# Altium schematic symbol library 2478.SchLib: 1 symbol
Pins are listed as number, name and electrical type; pins without a type are passive.

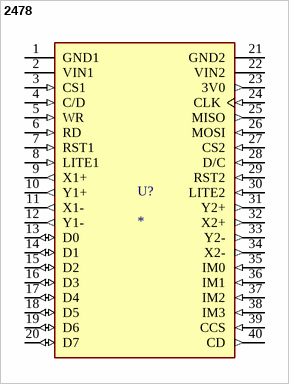
[diagram p0: symbol 2478]

## 2478
designator U?
Resistive Graphic LCD Display Module Red, Green, Blue (RGB) TFT - Color Parallel, 8-Bit, SPI 2.4 (60.96mm) 240 x 320; MF: Adafruit Industries; MP: 2478; Package: NON STANDARD Adafruit; Price: None; Value: *; SnapEDA_Link: https://www.snapeda.com/parts/2478/Adafruit+Industries+LLC/view-part/?ref=snap; Availability: In Stock; Check_prices: https://www.snapeda.com/parts/2478/Adafruit+Industries+LLC/view-part/?ref=eda
footprint ADAFRUIT_2478
pins: 1 GND1 (power), 2 VIN1 (power), 3 CS1 (in), 4 C/D (in), 5 WR (in), 6 RD (in), 7 RST1 (in), 8 LITE1 (in), 9 X1+ (out), 10 Y1+ (out), 11 X1- (out), 12 Y1- (out), 13 D0 (io), 14 D1 (io), 15 D2 (io), 16 D3 (io), 17 D4 (io), 18 D5 (io), 19 D6 (io), 20 D7 (io), 21 GND2 (power), 22 VIN2 (power), 23 3V0 (out), 24 CLK (in), 25 MISO (out), 26 MOSI (in), 27 CS2 (in), 28 D/C (in), 29 RST2 (in), 30 LITE2 (in), 31 Y2+ (out), 32 X2+ (out), 33 Y2- (out), 34 X2- (out), 35 IM0 (in), 36 IM1 (in), 37 IM2 (in), 38 IM3 (in), 39 CCS (in), 40 CD (out)